# Altium footprint library PcbLib1.PcbLib: 9 footprints
Each footprint in its own frame and in the unit in brackets; x right, y up, seen from the top. Pads: shape width x height; smd on the part's side, far side on the other; paste and mask are expansions set on the pad; w line width, h text height; cw(c..) or ccw(c..) is an arc to the next point about the centre after c.
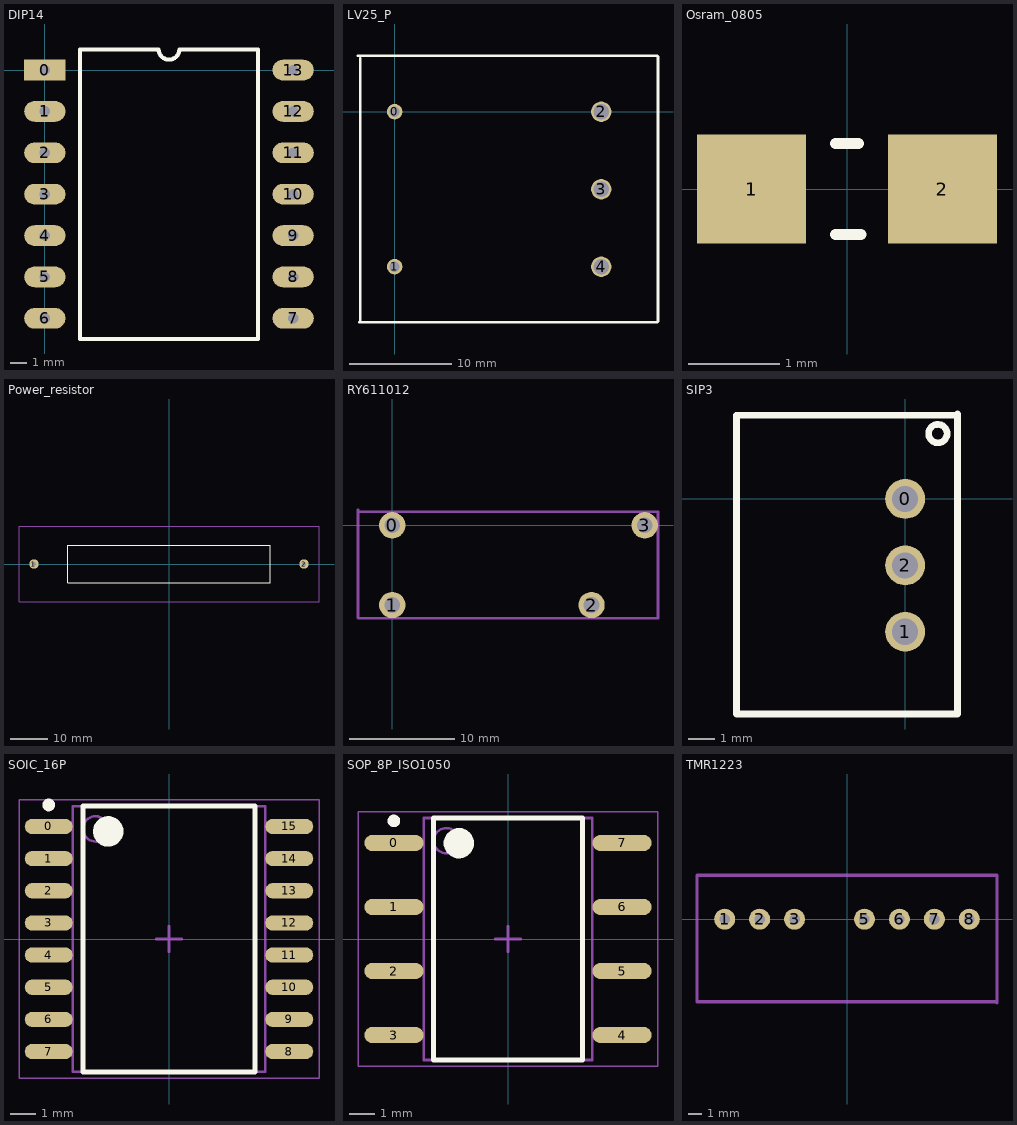
[diagram p0: the footprints below, top view; thin cyan lines are the x and y axes]

## DIP14 [mil]
pads (14):
  rect 100x50 hole 25: 0(0,0)
  oval 100x50 hole 25: 1(0,-100) 2(0,-200) 3(0,-300) 4(0,-400) 5(0,-500) 6(0,-600) 7(600,-600) 8(600,-500) 9(600,-400) 10(600,-300) 11(600,-200) 12(600,-100) 13(600,0)
Top Overlay:
  lines w10: 85,-650 515,-650 515,50 325,50 cw(c300,50) 275,50 85,50 85,-650

## LV25_P [mm] "footprint LV25_P"
height 16.4
pads (5):
  round 1.524 hole 1: 0(0,0) 1(0,-15.24)
  round 2 hole 1.5: 2(20.32,0) 3(20.32,-7.62) 4(20.32,-15.24)
Top Overlay:
  lines w0.254: -3.6,5.5 25.825,5.5 25.9,5.425 25.9,-20.625 25.825,-20.7 -3.45,-20.7 -3.375,-20.625 -3.375,5.275
3D body: height 15.2, standoff 1.2, extent -3.375,-20.55 25.8,5.425

## Osram_0805 [mm]
pads (2):
  rect 1.2x1.2 smd: 1(-1.05,0) 2(1.05,0)
Top Overlay:
  lines w0.12: -0.125,-0.5 0.152,-0.5 ; -0.125,0.5 0.125,0.5

## Power_resistor [mm]
pads (2):
  round 2.5 hole 1.1: 1(-36,0) 2(36,0)
Top Overlay:
  lines w0.25: -27,-5 -27,5 27,5 27,-5 -27,-5
Mechanical 15:
  lines w0.25: -40,-10 -40,10 40,10 40,-10 -40,-10
3D body: height 9.22, standoff 0.75, extent -26.5,-3.983 26.5,4.5

## RY611012 [mm]
pads (4):
  round 2.5 hole 1.5: 0(0,0) 1(0,-7.56) 2(18.9,-7.56) 3(23.94,0)
Mechanical 15:
  lines w0.25: -3.25,1.27 25.2,1.27 25.2,-8.8 -3.212,-8.8 -3.25,-8.762 -3.25,1.472

## SIP3 [mil]
height 708.66
pads (3):
  round 60 hole 39.37: 0(0,0) 1(0,-200) 2(0,-100)
Top Overlay:
  circle w10: c49.21,98.43 r13.92
  lines w10: -253.94,-323.82 -76.77,-323.82 78.74,-323.82 78.74,127.95 76.77,125.98 -253.94,125.98 -253.94,-146.65 -253.94,-323.82
3D body: height 688.98, standoff -141.73, extent -255.91,-324.8 78.74,127.95

## SOIC_16P [mm] "SOIC, 16-Leads, Body 10.30x7.50mm, Pitch 1.27mm, IPC Medium Density"
height 2.65
pads (16):
  oval 1.9x0.6 smd: 0(-4.75,4.445) 1(-4.75,3.175) 2(-4.75,1.905) 3(-4.75,0.635) 4(-4.75,-0.635) 5(-4.75,-1.905) 6(-4.75,-3.175) 7(-4.75,-4.445) 8(4.75,-4.445) 9(4.75,-3.175) 10(4.75,-1.905) 11(4.75,-0.635) 12(4.75,0.635) 13(4.75,1.905) 14(4.75,3.175) 15(4.75,4.445)
Top Overlay:
  circle w0.25: c-4.75,5.295 r0.125
  circle w0.6: c-2.4,4.25 r0.3
  lines w0.2: -3.4,-5.25 -3.4,5.25 3.4,5.25 3.4,-5.25 -3.4,-5.25
Mechanical 13:
  circle w0.1: c-2.9,4.35 r0.5
  lines w0.1: -3.8,-5.25 -3.8,5.25 3.8,5.25 3.8,-5.25 -3.8,-5.25
Mechanical 15:
  lines w0.05: -5.925,-5.5 -5.925,5.5 5.925,5.5 5.925,-5.5 -5.925,-5.5
  lines w0.1: -0.5,0 0.5,0 ; 0,-0.5 0,0.5
3D body: height 2.65, standoff 0.1, extent -3.8,-5.25 3.8,5.25

## SOP_8P_ISO1050 [mm] "SOP, 8-Leads, Body 9.50x6.62mm, Pitch 2.54mm, IPC Medium Density"
height 4.85
pads (8):
  oval 2.35x0.65 smd: 0(-4.525,3.81) 1(-4.525,1.27) 2(-4.525,-1.27) 3(-4.525,-3.81) 4(4.525,-3.81) 5(4.525,-1.27) 6(4.525,1.27) 7(4.525,3.81)
Top Overlay:
  circle w0.6: c-1.95,3.8 r0.3
  circle w0.25: c-4.525,4.685 r0.125
  lines w0.2: -2.95,-4.8 2.95,-4.8 2.95,4.8 -2.95,4.8 -2.95,-4.8
Mechanical 13:
  circle w0.1: c-2.45,3.9 r0.5
  lines w0.1: -3.35,-4.8 3.35,-4.8 3.35,4.8 -3.35,4.8 -3.35,-4.8
Mechanical 15:
  lines w0.05: -5.95,-5.05 5.95,-5.05 5.95,5.05 -5.95,5.05 -5.95,-5.05
  lines w0.1: -0.5,0 0.5,0 ; 0,-0.5 0,0.5
3D body: height 4.85, standoff 0.38, extent -3.35,-4.8 3.35,4.8

## TMR1223 [mil]
pads (7):
  round 60 hole 30: 1(-350,0) 2(-250,0) 3(-150,0) 5(50,0) 6(150,0) 7(250,0) 8(350,0)
Mechanical 15:
  lines w9.84: -429.13,-236.22 -429.13,125.98 429.13,125.98 429.13,-239.13 426.22,-236.22 416.22,-236.22 -429.13,-236.22
3D body: height 437.01, standoff 19.68, extent -434.06,-244.06 434.06,130.91